# Altium footprint library Sensors.PcbLib: 11 footprints
Each footprint in its own frame and in the unit in brackets; x right, y up, seen from the top. Pads: shape width x height; smd on the part's side, far side on the other; paste and mask are expansions set on the pad; w line width, h text height; cw(c..) or ccw(c..) is an arc to the next point about the centre after c.
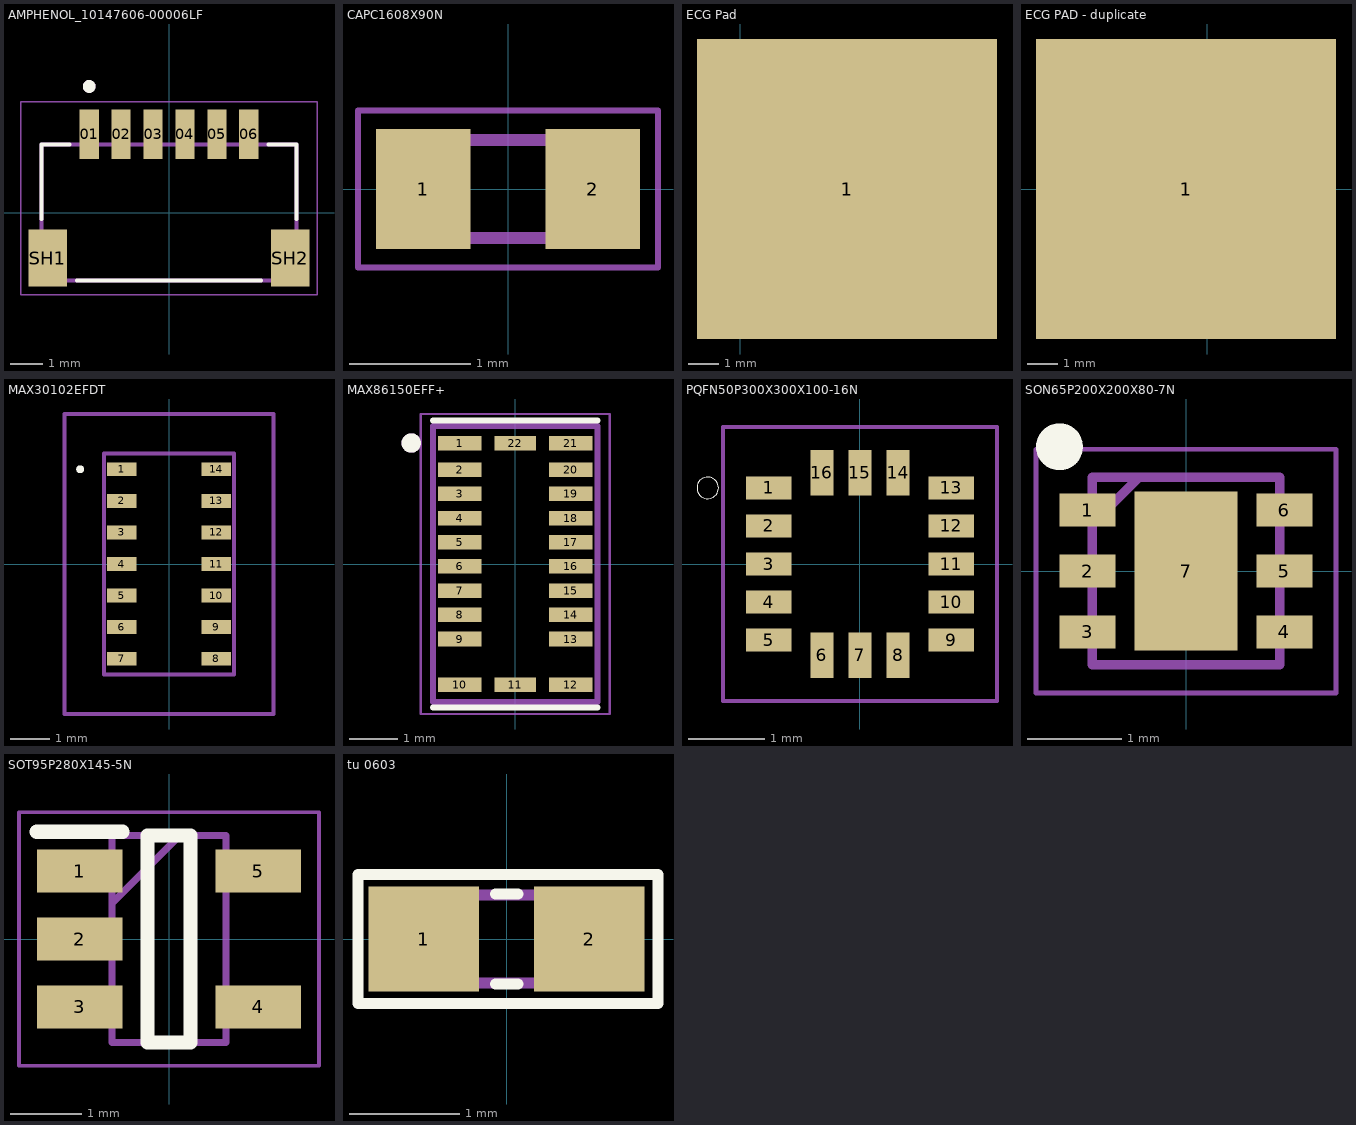
[diagram p0: the footprints below, top view; thin cyan lines are the x and y axes]

## AMPHENOL_10147606-00006LF [mm]
pads (8):
  rect 0.6x1.55 smd: 01(-2.5,2.45) 02(-1.5,2.45) 03(-0.5,2.45) 04(0.5,2.45) 05(1.5,2.45) 06(2.5,2.45)
  rect 1.2x1.8 smd: SH1(-3.8,-1.425) SH2(3.8,-1.425)
Top Overlay:
  circle w0.2: c-2.5,3.95 r0.1
  lines w0.127: -4,-0.205 -4,2.125 -3.12,2.125 ; -2.88,-2.125 2.88,-2.125 ; 3.12,2.125 4,2.125 4,-0.205
Mechanical 13:
  circle w0.2: c-2.5,3.95 r0.1
  lines w0.127: -4,-2.125 4,-2.125 4,2.125 -4,2.125 -4,-2.125
Mechanical 15:
  lines w0.05: -4.65,-2.575 4.65,-2.575 4.65,3.475 -4.65,3.475 -4.65,-2.575
3D body "step_temp.STEP": height 2.9, standoff 0, extent -4,-2.125 4,2.825

## CAPC1608X90N [mm]
pads (2):
  rect 0.78x0.99 smd: 1(-0.7,0) 2(0.7,0)
Mechanical 13:
  lines w0.1: -0.8,-0.405 -0.8,0.405 0.8,0.405 0.8,-0.405 -0.8,-0.405
Mechanical 15:
  lines w0.05: -1.24,-0.65 -1.24,0.65 1.24,0.65 1.24,-0.65 -1.24,-0.65
3D body "0603YC104K4Z2A.stp": height 0.91, standoff 0, extent -0.76,-0.38 0.76,0.38

## ECG Pad [mm] "1cm x 1cm ECG PAD"
pads (1):
  rect 10x10 smd: 1(3.556,6.096)

## ECG PAD - duplicate [mm]
pads (1):
  rect 10x10 smd: 1(-0.7,0)

## MAX30102EFDT [mm]
pads (14):
  rect 0.75x0.35 smd: 1(-1.2,2.4) 2(-1.2,1.6) 3(-1.2,0.8) 4(-1.2,0) 5(-1.2,-0.8) 6(-1.2,-1.6) 7(-1.2,-2.4) 8(1.2,-2.4) 9(1.2,-1.6) 10(1.2,-0.8) 11(1.2,0) 12(1.2,0.8) 13(1.2,1.6) 14(1.2,2.4)
Top Overlay:
  lines w0.1: -2.3,2.4 ccw(c-2.25,2.4) -2.2,2.4 ccw(c-2.25,2.4) -2.3,2.4
Mechanical 13:
  lines w0.1: -1.65,-2.8 -1.65,2.8 1.65,2.8 1.65,-2.8 -1.65,-2.8
Mechanical 15:
  lines w0.1: -2.65,-3.8 -2.65,3.8 2.65,3.8 2.65,-3.8 -2.65,-3.8
3D body "MAX30102EFD+T.stp": height 0, standoff 0, extent 0,0 0,0

## MAX86150EFF+ [mm]
pads (22):
  rect 0.9x0.3 smd: 1(-1.15,2.5) 2(-1.15,1.95) 3(-1.15,1.45) 4(-1.15,0.95) 5(-1.15,0.45) 6(-1.15,-0.05) 7(-1.15,-0.55) 8(-1.15,-1.05) 9(-1.15,-1.55) 10(-1.15,-2.5) 12(1.15,-2.5) 13(1.15,-1.55) 14(1.15,-1.05) 15(1.15,-0.55) 16(1.15,-0.05) 17(1.15,0.45) 18(1.15,0.95) 19(1.15,1.45) 20(1.15,1.95) 21(1.15,2.5)
  rect 0.85x0.3 smd: 11(0,-2.5) 22(0,2.5)
Top Overlay:
  circle w0.2: c-2.15,2.5 r0.1
  lines w0.127: -1.7,-2.964 1.7,-2.964 ; -1.7,2.964 1.7,2.964
Mechanical 13:
  circle w0.2: c-2.15,2.5 r0.1
  lines w0.127: -1.7,-2.85 -1.7,2.85 1.7,2.85 1.7,-2.85 -1.7,-2.85
Mechanical 15:
  lines w0.05: -1.95,-3.1 -1.95,3.1 1.95,3.1 1.95,-3.1 -1.95,-3.1
3D body "step_temp.STEP": height 1.4, standoff 0, extent -1.65,-2.8 1.65,2.8

## PCBComponent_1 [mm]

## PQFN50P300X300X100-16N [mm]
pads (16):
  rect 0.6x0.3 smd: 1(-1.2,1) 2(-1.2,0.5) 3(-1.2,0) 4(-1.2,-0.5) 5(-1.2,-1) 9(1.2,-1) 10(1.2,-0.5) 11(1.2,0) 12(1.2,0.5) 13(1.2,1)
  rect 0.3x0.6 smd: 6(-0.5,-1.2) 7(0,-1.2) 8(0.5,-1.2) 14(0.5,1.2) 15(0,1.2) 16(-0.5,1.2)
Top Overlay:
  circle w0: c-2,1 r0.141
Mechanical 15:
  lines w0.05: -1.8,-1.8 1.8,-1.8 1.8,1.8 -1.8,1.8 -1.8,-1.8
3D body "step_temp.STEP": height 0.95, standoff -0.05, extent -1.5,-1.5 1.5,1.5

## SON65P200X200X80-7N [mm]
pads (7):
  rect 0.6x0.35 smd: 1(-1.05,0.65) 2(-1.05,0) 3(-1.05,-0.65) 4(1.05,-0.65) 5(1.05,0) 6(1.05,0.65)
  rect 1.1x1.7 smd: 7(0,0)
Top Overlay:
  circle w0.25: c-1.35,1.325 r0.125
Mechanical 13:
  lines w0.1: -1,0.5 -0.5,1 ; -1,-1 -1,1 1,1 1,-1 -1,-1
Mechanical 15:
  lines w0.05: -1.6,-1.3 -1.6,1.3 1.6,1.3 1.6,-1.3 -1.6,-1.3
3D body "TMP117MAIDRVT.stp": height 0.8, standoff 0, extent -1.05,-1 1.05,1

## SOT95P280X145-5N [mm]
pads (5):
  rect 1.2x0.6 smd: 1(-1.25,0.95) 2(-1.25,0) 3(-1.25,-0.95) 4(1.25,-0.95) 5(1.25,0.95)
Top Overlay:
  lines w0.2: -1.85,1.5 -0.65,1.5 ; -0.3,-1.45 0.3,-1.45 0.3,1.45 -0.3,1.45 -0.3,-1.45
Mechanical 13:
  lines w0.1: -0.8,0.5 0.15,1.45 ; -0.8,-1.45 0.8,-1.45 0.8,1.45 -0.8,1.45 -0.8,-1.45
Mechanical 15:
  lines w0.05: -2.1,-1.775 2.1,-1.775 2.1,1.775 -2.1,1.775 -2.1,-1.775
3D body "TPS73218DBVR.stp": height 1.2, standoff 0, extent -1.4,-1.45 1.4,1.45

## tu 0603 [mm]
pads (2):
  rect 1x0.95 smd mask+0.076: 1(-0.75,0) 2(0.75,0)
Top Overlay:
  lines w0.102: -0.102,-0.406 0.102,-0.406 ; -0.102,0.406 0.102,0.406 ; -1.346,-0.584 1.372,-0.584 1.372,0.584 -1.346,0.584 -1.346,-0.584
Mechanical 13:
  lines w0.1: -0.8,-0.4 0.8,-0.4 0.8,0.4 -0.8,0.4 -0.8,-0.4
3D body "User Library-CAPC1608X09.step": height 0.9, standoff 0, extent -0.8,-0.4 0.8,0.4